# Altium schematic symbol library SCH - RF - MODULE - U-BLOX MAX-8Q-0-10.SCHLIB: 1 symbol
Pins are listed as number, name and electrical type; pins without a type are passive.

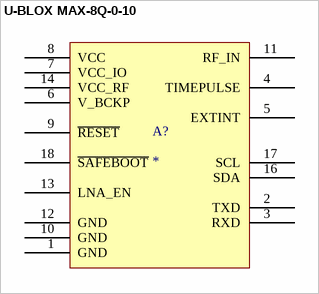
[diagram p0: symbol U-BLOX MAX-8Q-0-10]

## U-BLOX MAX-8Q-0-10
designator A?
pins: 1 GND, 2 TXD, 3 RXD, 4 TIMEPULSE, 5 EXTINT, 6 V_BCKP, 7 VCC_IO, 8 VCC, 9 ~{RESET}, 10 GND, 11 RF_IN, 12 GND, 13 LNA_EN, 14 VCC_RF, 16 SDA, 17 SCL, 18 ~{SAFEBOOT}